# EAGLE library part USB (library STUNTAZ)
USB Connectors USB-FEMALE-A-PTH: Through hole Female Type A Connector
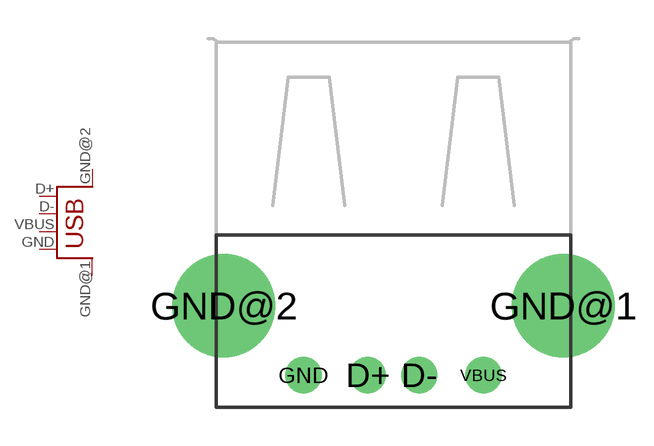
[diagram p6: symbol with the pads of USB-FEMALE-A-PTH; footprint USB-FEMALE-A-PTH]

Designator prefix -

## USB  [USB-FEMALE-A-PTH]
D+  D+
D-  D-
GND  GND
GND@1  GND
GND@2  GND
VBUS  VBUS

## Footprint USB-FEMALE-A-PTH (pad centres in mm)
drill 0.9 round: D+ 5.9,1.3; D- 7.9,1.3; GND 3.4,1.3; VBUS 10.4,1.3
drill 3 round: GND@1 13.5,4; GND@2 0.3,4